# Altium schematic symbol library MP4462D.SchLib: 1 symbol
Pins are listed as number, name and electrical type; pins without a type are passive.

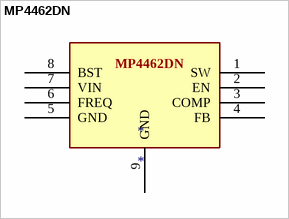
[diagram p0: symbol MP4462DN]

## MP4462DN
designator *
footprint PCBComponent_1 - duplicate
pins: 1 SW, 2 EN, 3 COMP, 4 FB, 5 GND, 6 FREQ, 7 VIN, 8 BST, 9 GND